# EAGLE library part LM4911 (library NewSDR)
Stereo 40mW Low Noise Headphone Amplifier with Selectable Capacitive Copled or OCL Output
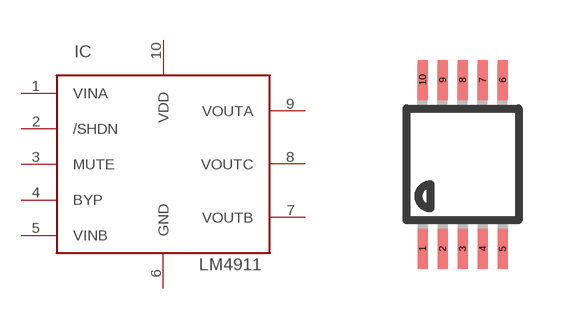
[diagram p56: symbol with the pads of MSOP10; footprint MSOP10]

Designator prefix IC

## LM4911MM  [MSOP10]
1  VINA  in
2  /SHDN  in
3  MUTE  in
4  BYP  pas
5  VINB  in
6  GND  pwr
7  VOUTB  out
8  VOUTC  pwr
9  VOUTA  out
10  VDD  pwr

## Footprint MSOP10 (pad centres in mm)
10-Lead Mini Small Outline Package [MSOP] (RM-10) Source: http://www.analog.com/UploadedFiles/Data_Sheets/35641221898805SSM2167_b.pdf COMPLIANT TO JEDEC STANDARDS MO-187BA
smd 0.25 x 1: 1 -1,-2.113; 2 -0.5,-2.113; 3 0,-2.113; 4 0.5,-2.113; 5 1,-2.113; 6 1,2.113; 7 0.5,2.113; 8 0,2.113; 9 -0.5,2.113; 10 -1,2.113